# Altium footprint library Hardware.PcbLib: 24 footprints (part 2 of 2)
Each footprint in its own frame and in the unit in brackets; x right, y up, seen from the top. Pads: shape width x height; smd on the part's side, far side on the other; paste and mask are expansions set on the pad; w line width, h text height; cw(c..) or ccw(c..) is an arc to the next point about the centre after c.
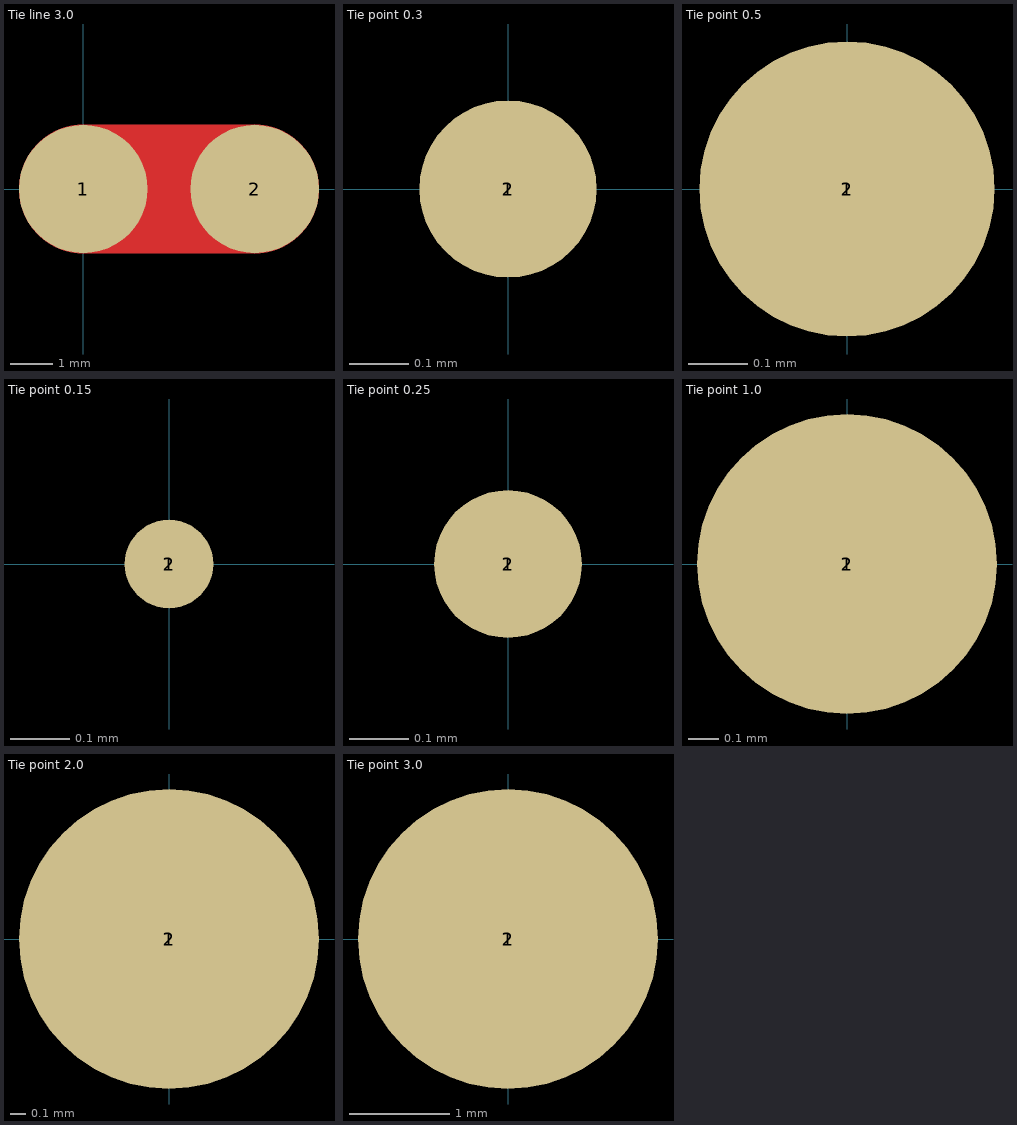
[diagram p1: the footprints below, top view; thin cyan lines are the x and y axes]

## Tie line 3.0 [mm] "Tie line 3.0"
pads (2):
  round 3 smd paste-1.6 mask-1.6: 1(0,0) 2(4,0)
Top Layer:
  lines w3: 0,0 4,0

## Tie point 0.3 [mm] "Tie point 0.3"
pads (2):
  round 0.3 smd paste-0.2 mask-0.2: 1(0,0) 2(0,0)

## Tie point 0.5 [mm] "Tie point 0.5"
pads (2):
  round 0.5 smd paste-0.3 mask-0.3: 1(0,0) 2(0,0)

## Tie point 0.15 [mm] "Tie point 0.15"
pads (2):
  round 0.15 smd paste-0.1 mask-0.1: 1(0,0) 2(0,0)

## Tie point 0.25 [mm] "Tie point 0.25"
pads (2):
  round 0.25 smd paste-0.15 mask-0.15: 1(0,0) 2(0,0)

## Tie point 1.0 [mm] "Tie point 1.0"
pads (2):
  round 1 smd paste-1.1 mask-1.1: 1(0,0) 2(0,0)

## Tie point 2.0 [mm] "Tie point 2.0"
pads (2):
  round 2 smd paste-2.1 mask-2.1: 1(0,0) 2(0,0)

## Tie point 3.0 [mm] "Tie point 3.0"
pads (2):
  round 3 smd paste-3.1 mask-3.1: 1(0,0) 2(0,0)